# EAGLE library part 67503-1020 (library 67503-1020)
USB Connectors USB Mini-B Recept On-The-Go Rt.Angle Source: Datasheet <https://www.molex.com/pdm_docs/sd/675031020_sd.pdf>
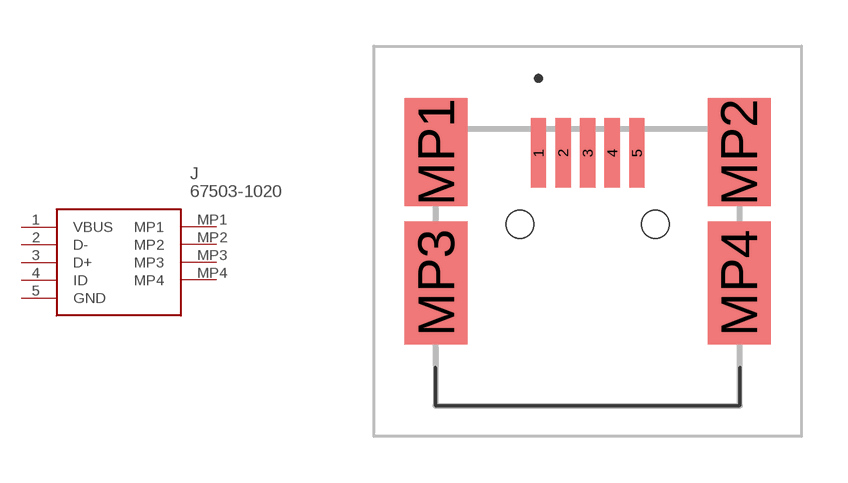
[diagram p0: symbol with the pads of 675031020; footprint 675031020]

Designator prefix J

## 67503-1020 (Description: USB Connectors USB Mini-B Recept On-The-Go Rt.Angle; Height: 4.05mm; Manufacturer_Name: Molex; Manufacturer_Part_Number: 67503-1020; Mouser_Part_Number: 538-67503-1020; Mouser_Price-Stock: https://www.mouser.co.uk/ProductDetail/Molex/67503-1020?qs=7zcQ9RRVJlhHWuXYKEhKMg%3D%3D)  [675031020]
1  VBUS
2  D-
3  D+
4  ID
5  GND
MP1  MP1
MP2  MP2
MP3  MP3
MP4  MP4

## Footprint 675031020 (pad centres in mm)
67503-1020-3
smd 0.5 x 2.25: 1 -1.6,3.725; 2 -0.8,3.725; 3 0,3.725; 4 0.8,3.725; 5 1.6,3.725
smd 2.05 x 3.5: MP1 -4.925,3.75; MP2 4.925,3.75
smd 2.05 x 4: MP3 -4.925,-0.5; MP4 4.925,-0.5
hole 0.9 at -2.2,1.4
hole 0.9 at 2.2,1.4